# EAGLE library part LM358 (library cpsmv)
Dual single-supply, general purpose op-amps
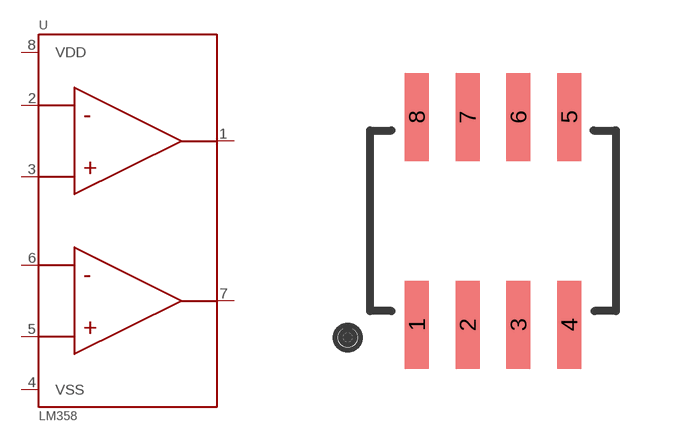
[diagram p15: symbol with the pads of SOP08; footprint SOP08]

Designator prefix U

## LM358 (DATASHEET_LINK: http://www.ti.com/lit/ds/symlink/lm158-n.pdf; MANUFACTURER: Texas Instruments; MANUFACTURER_PN: LM3358; PACKAGE: 8-SOIC; SUPPLIER: Digi-Key; SUPPLIER_PN: 296-1014-2-ND)  [SOP08]
1  VOUTA  pas
2  VINA-  pas
3  VINA+  pas
4  VSS  pwr
5  VINB+  pas
6  VINB-  pas
7  VOUTB  pas
8  VDD  pwr

## Footprint SOP08 (pad centres in mm)
SMALL OUTLINE PACKAGE
smd 0.6 x 2.2: 1 -1.905,-2.6; 2 -0.635,-2.6; 3 0.635,-2.6; 4 1.905,-2.6; 5 1.905,2.6; 6 0.635,2.6; 7 -0.635,2.6; 8 -1.905,2.6